# Altium schematic symbol library SCH - MCU - STM32 - ST MICROELECTRONICS STM32F423MHYX WLCSP81.SchLib: 1 symbol
Pins are listed as number, name and electrical type; pins without a type are passive.

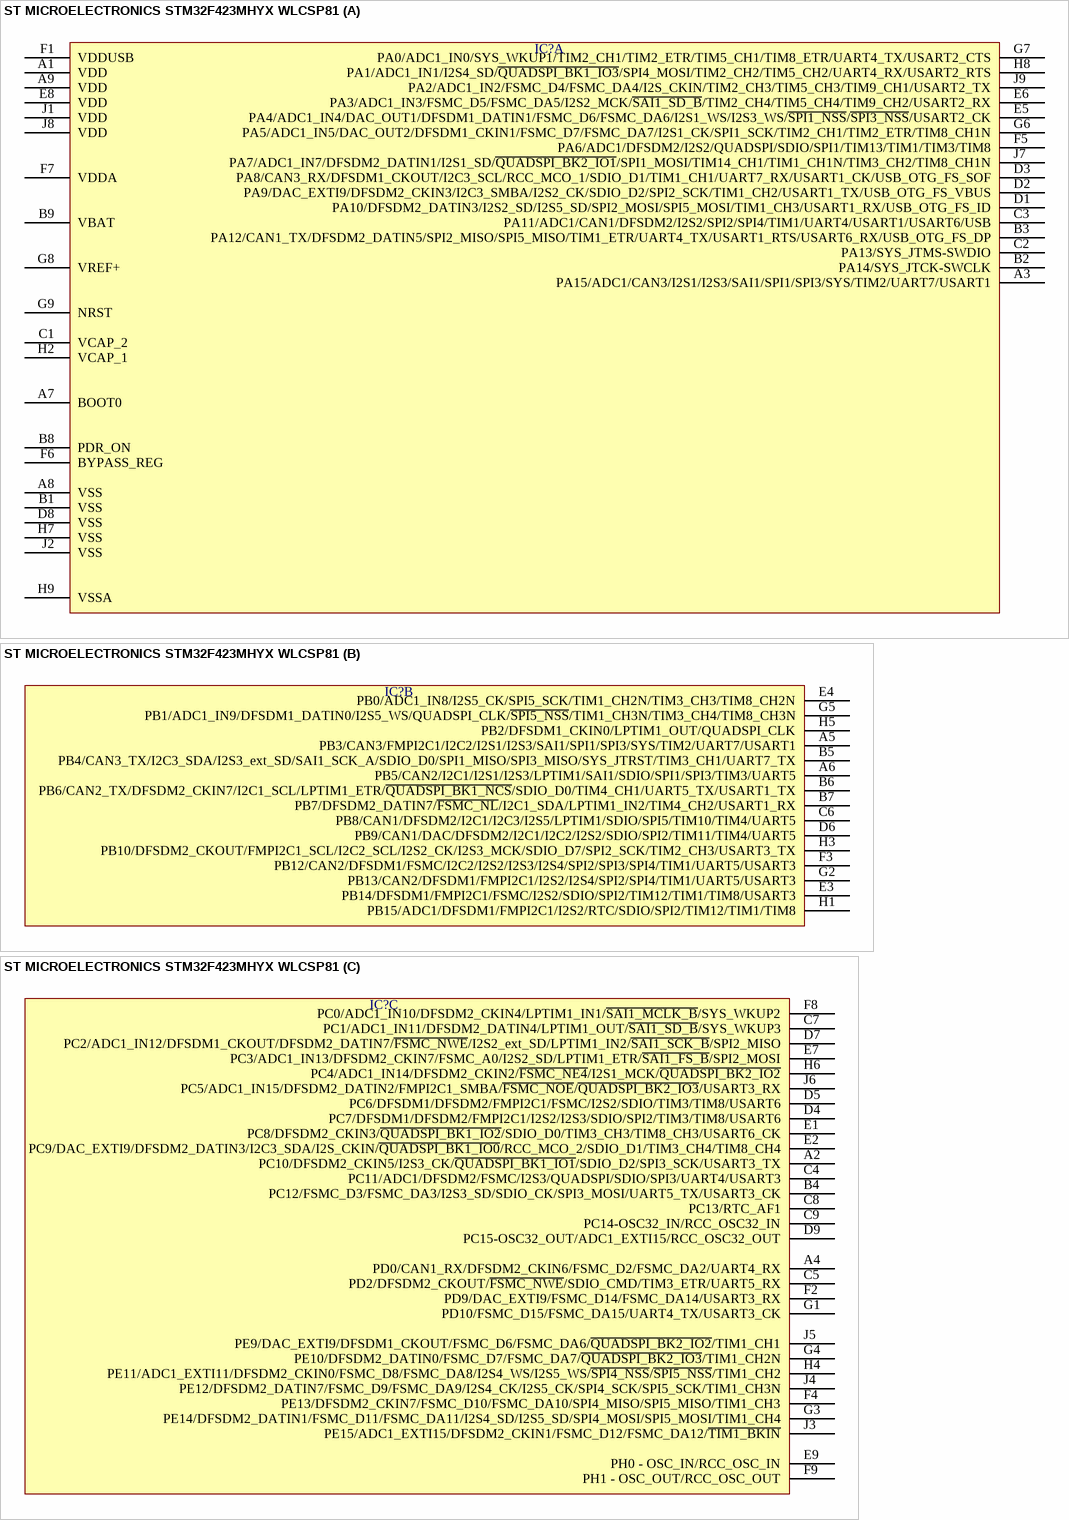
[diagram p0: symbol ST MICROELECTRONICS STM32F423MHYX WLCSP81]

## ST MICROELECTRONICS STM32F423MHYX WLCSP81
designator IC?  (value not drawn)
part A pins: A1 VDD, A3 PA15/ADC1/CAN3/I2S1/I2S3/SAI1/SPI1/SPI3/SYS/TIM2/UART7/USART1, A7 BOOT0, A8 VSS, A9 VDD, B1 VSS, B2 PA14/SYS_JTCK-SWCLK, B3 PA12/CAN1_TX/DFSDM2_DATIN5/SPI2_MISO/SPI5_MISO/TIM1_ETR/UART4_TX/USART1_RTS/USART6_RX/USB_OTG_FS_DP, B8 PDR_ON, B9 VBAT, C1 VCAP_2, C2 PA13/SYS_JTMS-SWDIO, C3 PA11/ADC1/CAN1/DFSDM2/I2S2/SPI2/SPI4/TIM1/UART4/USART1/USART6/USB, D1 PA10/DFSDM2_DATIN3/I2S2_SD/I2S5_SD/SPI2_MOSI/SPI5_MOSI/TIM1_CH3/USART1_RX/USB_OTG_FS_ID, D2 PA9/DAC_EXTI9/DFSDM2_CKIN3/I2C3_SMBA/I2S2_CK/SDIO_D2/SPI2_SCK/TIM1_CH2/USART1_TX/USB_OTG_FS_VBUS, D3 PA8/CAN3_RX/DFSDM1_CKOUT/I2C3_SCL/RCC_MCO_1/SDIO_D1/TIM1_CH1/UART7_RX/USART1_CK/USB_OTG_FS_SOF, D8 VSS, E5 PA4/ADC1_IN4/DAC_OUT1/DFSDM1_DATIN1/FSMC_D6/FSMC_DA6/I2S1_WS/I2S3_WS/~{SPI1_NSS}/~{SPI3_NSS}/USART2_CK, E6 PA3/ADC1_IN3/FSMC_D5/FSMC_DA5/I2S2_MCK/~{SAI1_SD_B}/TIM2_CH4/TIM5_CH4/TIM9_CH2/USART2_RX, E8 VDD, F1 VDDUSB, F5 PA6/ADC1/DFSDM2/I2S2/QUADSPI/SDIO/SPI1/TIM13/TIM1/TIM3/TIM8, F6 BYPASS_REG, F7 VDDA, G6 PA5/ADC1_IN5/DAC_OUT2/DFSDM1_CKIN1/FSMC_D7/FSMC_DA7/I2S1_CK/SPI1_SCK/TIM2_CH1/TIM2_ETR/TIM8_CH1N, G7 PA0/ADC1_IN0/SYS_WKUP1/TIM2_CH1/TIM2_ETR/TIM5_CH1/TIM8_ETR/UART4_TX/USART2_CTS, G8 VREF+, G9 NRST, H2 VCAP_1, H7 VSS, H8 PA1/ADC1_IN1/I2S4_SD/~{QUADSPI_BK1_IO3}/SPI4_MOSI/TIM2_CH2/TIM5_CH2/UART4_RX/USART2_RTS, H9 VSSA, J1 VDD, J2 VSS, J7 PA7/ADC1_IN7/DFSDM2_DATIN1/I2S1_SD/~{QUADSPI_BK2_IO1}/SPI1_MOSI/TIM14_CH1/TIM1_CH1N/TIM3_CH2/TIM8_CH1N, J8 VDD, J9 PA2/ADC1_IN2/FSMC_D4/FSMC_DA4/I2S_CKIN/TIM2_CH3/TIM5_CH3/TIM9_CH1/USART2_TX
part B pins: A5 PB3/CAN3/FMPI2C1/I2C2/I2S1/I2S3/SAI1/SPI1/SPI3/SYS/TIM2/UART7/USART1, A6 PB5/CAN2/I2C1/I2S1/I2S3/LPTIM1/SAI1/SDIO/SPI1/SPI3/TIM3/UART5, B5 PB4/CAN3_TX/I2C3_SDA/I2S3_ext_SD/SAI1_SCK_A/SDIO_D0/SPI1_MISO/SPI3_MISO/SYS_JTRST/TIM3_CH1/UART7_TX, B6 PB6/CAN2_TX/DFSDM2_CKIN7/I2C1_SCL/LPTIM1_ETR/~{QUADSPI_BK1_NCS}/SDIO_D0/TIM4_CH1/UART5_TX/USART1_TX, B7 PB7/DFSDM2_DATIN7/~{FSMC_NL}/I2C1_SDA/LPTIM1_IN2/TIM4_CH2/USART1_RX, C6 PB8/CAN1/DFSDM2/I2C1/I2C3/I2S5/LPTIM1/SDIO/SPI5/TIM10/TIM4/UART5, D6 PB9/CAN1/DAC/DFSDM2/I2C1/I2C2/I2S2/SDIO/SPI2/TIM11/TIM4/UART5, E3 PB14/DFSDM1/FMPI2C1/FSMC/I2S2/SDIO/SPI2/TIM12/TIM1/TIM8/USART3, E4 PB0/ADC1_IN8/I2S5_CK/SPI5_SCK/TIM1_CH2N/TIM3_CH3/TIM8_CH2N, F3 PB12/CAN2/DFSDM1/FSMC/I2C2/I2S2/I2S3/I2S4/SPI2/SPI3/SPI4/TIM1/UART5/USART3, G2 PB13/CAN2/DFSDM1/FMPI2C1/I2S2/I2S4/SPI2/SPI4/TIM1/UART5/USART3, G5 PB1/ADC1_IN9/DFSDM1_DATIN0/I2S5_WS/QUADSPI_CLK/~{SPI5_NSS}/TIM1_CH3N/TIM3_CH4/TIM8_CH3N, H1 PB15/ADC1/DFSDM1/FMPI2C1/I2S2/RTC/SDIO/SPI2/TIM12/TIM1/TIM8, H3 PB10/DFSDM2_CKOUT/FMPI2C1_SCL/I2C2_SCL/I2S2_CK/I2S3_MCK/SDIO_D7/SPI2_SCK/TIM2_CH3/USART3_TX, H5 PB2/DFSDM1_CKIN0/LPTIM1_OUT/QUADSPI_CLK
part C pins: A2 PC10/DFSDM2_CKIN5/I2S3_CK/~{QUADSPI_BK1_IO1}/SDIO_D2/SPI3_SCK/USART3_TX, A4 PD0/CAN1_RX/DFSDM2_CKIN6/FSMC_D2/FSMC_DA2/UART4_RX, B4 PC12/FSMC_D3/FSMC_DA3/I2S3_SD/SDIO_CK/SPI3_MOSI/UART5_TX/USART3_CK, C4 PC11/ADC1/DFSDM2/FSMC/I2S3/QUADSPI/SDIO/SPI3/UART4/USART3, C5 PD2/DFSDM2_CKOUT/~{FSMC_NWE}/SDIO_CMD/TIM3_ETR/UART5_RX, C7 PC1/ADC1_IN11/DFSDM2_DATIN4/LPTIM1_OUT/~{SAI1_SD_B}/SYS_WKUP3, C8 PC13/RTC_AF1, C9 PC14-OSC32_IN/RCC_OSC32_IN, D4 PC7/DFSDM1/DFSDM2/FMPI2C1/I2S2/I2S3/SDIO/SPI2/TIM3/TIM8/USART6, D5 PC6/DFSDM1/DFSDM2/FMPI2C1/FSMC/I2S2/SDIO/TIM3/TIM8/USART6, D7 PC2/ADC1_IN12/DFSDM1_CKOUT/DFSDM2_DATIN7/~{FSMC_NWE}/I2S2_ext_SD/LPTIM1_IN2/~{SAI1_SCK_B}/SPI2_MISO, D9 PC15-OSC32_OUT/ADC1_EXTI15/RCC_OSC32_OUT, E1 PC8/DFSDM2_CKIN3/~{QUADSPI_BK1_IO2}/SDIO_D0/TIM3_CH3/TIM8_CH3/USART6_CK, E2 PC9/DAC_EXTI9/DFSDM2_DATIN3/I2C3_SDA/I2S_CKIN/~{QUADSPI_BK1_IO0}/RCC_MCO_2/SDIO_D1/TIM3_CH4/TIM8_CH4, E7 PC3/ADC1_IN13/DFSDM2_CKIN7/FSMC_A0/I2S2_SD/LPTIM1_ETR/~{SAI1_FS_B}/SPI2_MOSI, E9 PH0 - OSC_IN/RCC_OSC_IN, F2 PD9/DAC_EXTI9/FSMC_D14/FSMC_DA14/USART3_RX, F4 PE13/DFSDM2_CKIN7/FSMC_D10/FSMC_DA10/SPI4_MISO/SPI5_MISO/TIM1_CH3, F8 PC0/ADC1_IN10/DFSDM2_CKIN4/LPTIM1_IN1/~{SAI1_MCLK_B}/SYS_WKUP2, F9 PH1 - OSC_OUT/RCC_OSC_OUT, G1 PD10/FSMC_D15/FSMC_DA15/UART4_TX/USART3_CK, G3 PE14/DFSDM2_DATIN1/FSMC_D11/FSMC_DA11/I2S4_SD/I2S5_SD/SPI4_MOSI/SPI5_MOSI/TIM1_CH4, G4 PE10/DFSDM2_DATIN0/FSMC_D7/FSMC_DA7/~{QUADSPI_BK2_IO3}/TIM1_CH2N, H4 PE11/ADC1_EXTI11/DFSDM2_CKIN0/FSMC_D8/FSMC_DA8/I2S4_WS/I2S5_WS/~{SPI4_NSS}/~{SPI5_NSS}/TIM1_CH2, H6 PC4/ADC1_IN14/DFSDM2_CKIN2/~{FSMC_NE4}/I2S1_MCK/~{QUADSPI_BK2_IO2}, J3 PE15/ADC1_EXTI15/DFSDM2_CKIN1/FSMC_D12/FSMC_DA12/~{TIM1_BKIN}, J4 PE12/DFSDM2_DATIN7/FSMC_D9/FSMC_DA9/I2S4_CK/I2S5_CK/SPI4_SCK/SPI5_SCK/TIM1_CH3N, J5 PE9/DAC_EXTI9/DFSDM1_CKOUT/FSMC_D6/FSMC_DA6/~{QUADSPI_BK2_IO2}/TIM1_CH1, J6 PC5/ADC1_IN15/DFSDM2_DATIN2/FMPI2C1_SMBA/~{FSMC_NOE}/~{QUADSPI_BK2_IO3}/USART3_RX